# EAGLE library part CLP6C (library Custom)
Cree 3 in 1 LED (RGB), CLP6C-FKB
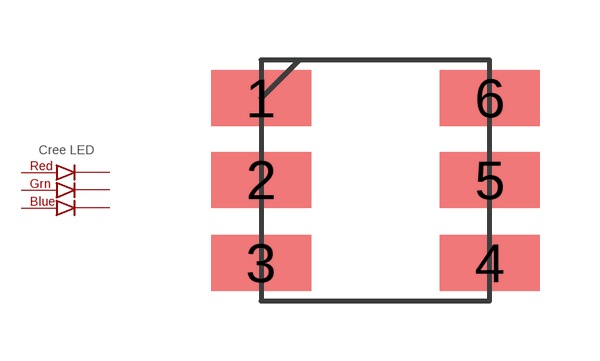
[diagram p3: symbol with the pads of 6-PLCC; footprint 6-PLCC]

Designator prefix -

## CLP6C  [6-PLCC]
1  1
2  2
3  3
4  4
5  5
6  6

## Footprint 6-PLCC (pad centres in mm)
smd 2.5 x 1.4: 1 -2.857,1.905; 2 -2.857,-0.142; 3 -2.857,-2.223; 4 2.857,-2.223; 5 2.857,-0.142; 6 2.857,1.905